# EAGLE library part BT40 (library Modules)
BLE 5.2, 802.15.4 Modules ・nRF5340 QKAA, dual core ARM® Cortex M33 ・128/64 MHz Cortex M33 with FPU and DSP instructions ・1MB flash, 512KB RAM ・DC-DC converter, inductors for VDD, VDDH on board. ・Direct powered by Lithium batteries or USB supply (up to 5.5V)
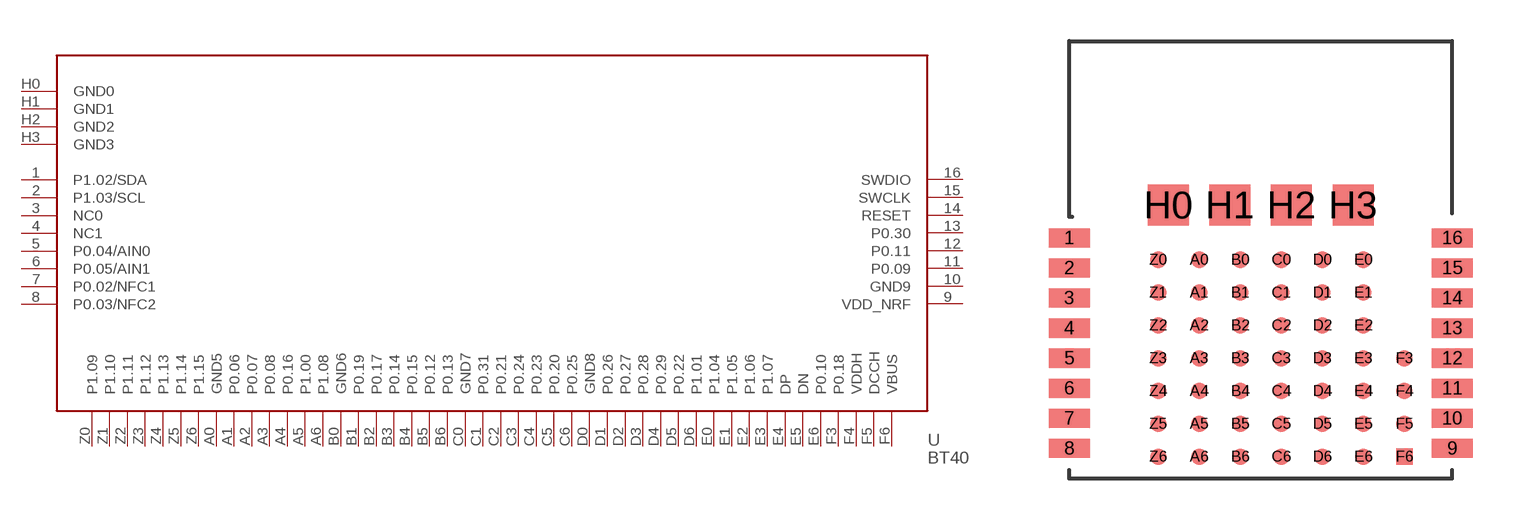
[diagram p5: symbol with the pads of BM40-B_1PRIMARY; footprint BM40-B_1PRIMARY]

Designator prefix U

## BT40  [BM40-B_1PRIMARY]
1  P1.02/SDA
2  P1.03/SCL
3  NC0  nc
4  NC1  nc
5  P0.04/AIN0
6  P0.05/AIN1
7  P0.02/NFC1
8  P0.03/NFC2
9  VDD_NRF  pas
10  GND9  pas
11  P0.09
12  P0.11
13  P0.30
14  RESET
15  SWCLK
16  SWDIO
A0  GND5  pas
A1  P0.06
A2  P0.07
A3  P0.08
A4  P0.16
A5  P1.00
A6  P1.08
B0  GND6  pas
B1  P0.19
B2  P0.17
B3  P0.14
B4  P0.15
B5  P0.12
B6  P0.13
C0  GND7  pas
C1  P0.31
C2  P0.21
C3  P0.24
C4  P0.23
C5  P0.20
C6  P0.25
D0  GND8  pas
D1  P0.26
D2  P0.27
D3  P0.28
D4  P0.29
D5  P0.22
D6  P1.01
E0  P1.04
E1  P1.05
E2  P1.06
E3  P1.07
E4  DP
E5  DN
E6  P0.10
F3  P0.18
F4  VDDH  pas
F5  DCCH  pas
F6  VBUS  pas
H0  GND0  pas
H1  GND1  pas
H2  GND2  pas
H3  GND3  pas
Z0  P1.09
Z1  P1.10
Z2  P1.11
Z3  P1.12
Z4  P1.13
Z5  P1.14
Z6  P1.15

## Footprint BM40-B_1PRIMARY (pad centres in mm)
Original name BM40-B
smd 1.5 x 0.7: 1 0,8.8; 2 0,7.7; 3 0,6.6; 4 0,5.5; 5 0,4.4; 6 0,3.3; 7 0,2.2; 8 0,1.1; 9 14,1.1; 10 14,2.2; 11 14,3.3; 12 14,4.4; 13 14,5.5; 14 14,6.6; 15 14,7.7; 16 14,8.8
smd 0.6 x 0.6: A0 4.75,8; A1 4.75,6.8; A2 4.75,5.6; A3 4.75,4.4; A4 4.75,3.2; A5 4.75,2; A6 4.75,0.8; B0 6.25,8; B1 6.25,6.8; B2 6.25,5.6; B3 6.25,4.4; B4 6.25,3.2; B5 6.25,2; B6 6.25,0.8; C0 7.75,8; C1 7.75,6.8; C2 7.75,5.6; C3 7.75,4.4; C4 7.75,3.2; C5 7.75,2; C6 7.75,0.8; D0 9.25,8; D1 9.25,6.8; D2 9.25,5.6; D3 9.25,4.4; D4 9.25,3.2; D5 9.25,2; D6 9.25,0.8; E0 10.75,8; E1 10.75,6.8; E2 10.75,5.6; E3 10.75,4.4; E4 10.75,3.2; E5 10.75,2; E6 10.75,0.8; F3 12.25,4.4; F4 12.25,3.2; F5 12.25,2; F6 12.25,0.8; Z0 3.25,8; Z1 3.25,6.8; Z2 3.25,5.6; Z3 3.25,4.4; Z4 3.25,3.2; Z5 3.25,2; Z6 3.25,0.8
smd 1.5 x 1.5: H0 3.625,10; H1 5.875,10; H2 8.125,10; H3 10.375,10